# Altium footprint library SOP4L.PcbLib: 1 footprints
Each footprint in its own frame and in the unit in brackets; x right, y up, seen from the top. Pads: shape width x height; smd on the part's side, far side on the other; paste and mask are expansions set on the pad; w line width, h text height; cw(c..) or ccw(c..) is an arc to the next point about the centre after c.
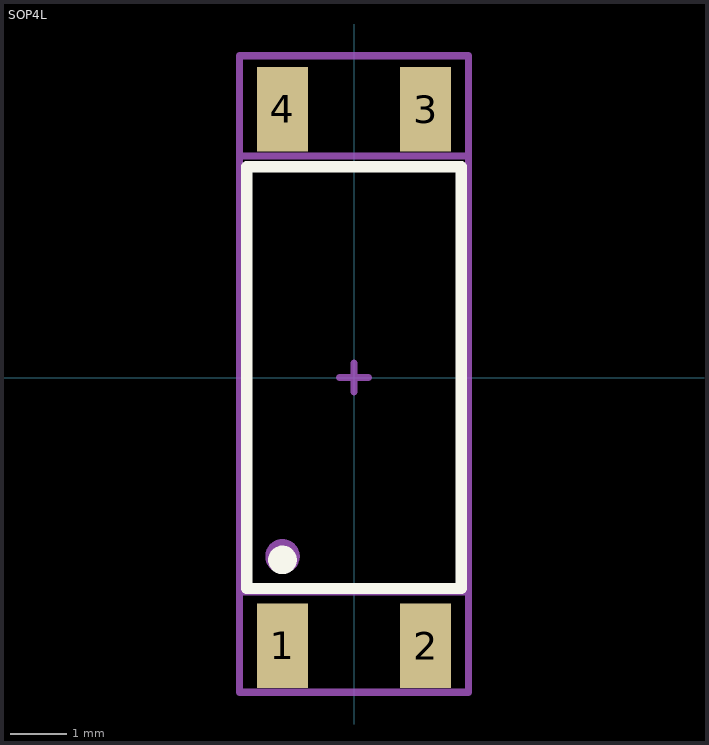
[diagram p0: the footprint, top view; thin cyan lines are the x and y axes]

## SOP4L [mm]
pads (4):
  rect 0.9x1.5 smd: 1(-1.27,-4.763) 2(1.27,-4.763) 3(1.27,4.763) 4(-1.27,4.763)
Top Overlay:
  circle w0.254: c-1.27,-3.238 r0.127
  lines w0.203: -1.905,-3.746 -1.905,3.746 1.905,3.746 1.905,-3.746 -1.905,-3.746
Mechanical 13:
  circle w0.254: c-1.27,-3.175 r0.18
  lines w0.127: -2.032,-3.81 -2.032,3.937 2.032,3.937 2.032,-3.81 -2.032,-3.81
Mechanical 15:
  lines w0.127: -0.254,0 0.254,0 ; 0,-0.254 0,0.254 ; -2.032,-5.588 2.032,-5.588 2.032,5.715 -2.032,5.715 -2.032,5.588 -2.032,-5.588
Mechanical 17:
  text "'.Designator'" at 0.381,-3.683 h0.64
3D body "User Library-TCLT100-SOP4L.step": height 2.1, standoff -0.02, extent -2.05,-5.036 2.05,5.163